# Altium integrated library TE Pressure Sensors.IntLib: 6 symbols
Pins are listed as number, name and electrical type; pins without a type are passive.

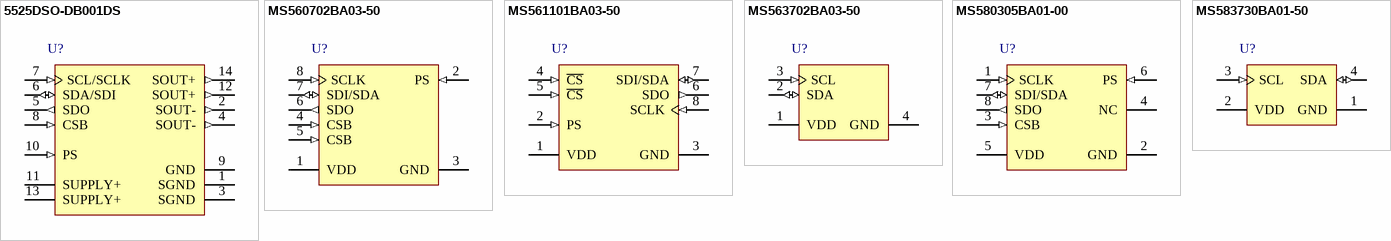
[diagram p0: symbols 5525DSO-DB001DS to MS583730BA01-50]

## 5525DSO-DB001DS
designator U?
Digital Small Outline, 1.8 to 3.6 V, -40 to 125 degC, 14-Pin SOIC, RoHS; PackageReference: SMD; PackageDescription: 14-Pin Small Outline Integrated Package, Body 12.50 x 7.90 mm, Pitch 1.27 mm; Supplier 1: Digi-Key; Supplier Part Number 1: 223-1707-5-ND; Mounting Technology: Surface Mount; ComponentLink1Description: Manufacturer URL; ComponentLink1URL: http://www.te.com; ComponentLink2Description: Datasheet; ComponentLink2URL: http://www.te.com/commerce/DocumentDelivery/DDEController?Action=showdoc&DocId=Data+Sheet%7FMS5525DSO%7FD6%7Fpdf%7FEnglish%7FENG_DS_MS5525DSO_D6.pdf%7F5525DSO-DB001DS
footprint TECO-MS5525DSO-DBxxxyS-14_V (SOIC, 14-Leads, Body 12.50x7.90mm, Pitch 1.27mm)
pins: 1 SGND (power) "Sensor Ground", 2 SOUT- (out) "Sensor Outputs, Negative", 3 SGND (power) "Sensor Ground", 4 SOUT- (out) "Sensor Outputs, Negative", 5 SDO (out) "Serial Data Output", 6 SDA/SDI (io), 7 SCL/SCLK (in), 8 CSB (in) "Defines I2C Address, Chip Select (Active Low)", 9 GND (power), 10 PS (in) "Protocol Select", 11 SUPPLY+ (power) "Positive Supply Voltage", 12 SOUT+ (out) "Sensor Outputs, Positive", 13 SUPPLY+ (power) "Positive Supply Voltage", 14 SOUT+ (out) "Sensor Outputs, Positive"

## MS560702BA03-50
designator U?
Barometric Pressure Sensor, with Stainless Steel Cap , 1.8 to 3.6 V, -40 to 85 degC, 8-Pin SMD, RoHS, Tape and Reel; PackageReference: SMD; PackageDescription: 8-Pin Surface Mount Device, Body 3 x 5 mm, Pitch 1.25 mm; Supplier 1: Digi-Key; Supplier Part Number 1: 223-1198-2-ND; Supplier 2: Digi-Key; Supplier Part Number 2: 223-1198-1-ND; Supplier 3: Digi-Key; Supplier Part Number 3: 223-1198-6-ND; Mounting Technology: Surface Mount; ComponentLink1Description: Manufacturer URL; ComponentLink1URL: http://www.te.com; ComponentLink2Description: Datasheet; ComponentLink2URL: http://www.te.com/commerce/DocumentDelivery/DDEController?Action=showdoc&DocId=Data+Sheet%7FMS5607-02BA03%7FB2%7Fpdf%7FEnglish%7FENG_DS_MS5607-02BA03_B2.pdf%7FMS560702BA03-50
footprint TECO-MS560702BA03-50_V (SMD, 8-Leads, Body 3x5mm, Pitch 1.25mm)
pins: 1 VDD (power) "Positive supply voltage", 2 PS (in) "Protocol select. PS high (VDD) ---> I2C. PS low (GND) ---> SPI", 3 GND (power) "Ground", 4 CSB (in) "Chip select (active low), internal connection", 5 CSB (in) "Chip select (active low), internal connection", 6 SDO (out) "Serial data output", 7 SDI/SDA (io) "Serial data input / I2C data IO", 8 SCLK (in) "Serial data clock"

## MS561101BA03-50
designator U?
Barometric Pressure Sensor, with Stainless Steel Cap, 1.8 to 3.6 V, -45 to 85 degC, 8-Pin QFN, RoHS, Tape and Reel; PackageReference: SMD; PackageDescription: 8-Pin Surface Mount Device, Body 5 x 3 mm, Pitch 1.25 mm; Supplier 1: Digi-Key; Supplier Part Number 1: 223-1622-2-ND; Supplier 2: Digi-Key; Supplier Part Number 2: 223-1622-1-ND; Supplier 3: Digi-Key; Supplier Part Number 3: 223-1622-6-ND; Mounting Technology: Surface Mount; ComponentLink1Description: Manufacturer URL; ComponentLink1URL: http://www.te.com; ComponentLink2Description: Datasheet; ComponentLink2URL: http://www.te.com/commerce/DocumentDelivery/DDEController?Action=srchrtrv&DocNm=MS5611-01BA03&DocType=Data+Sheet&DocLang=English&DocFormat=pdf&PartCntxt=CAT-BLPS0036
footprint MSI-MS561101BA03-50-8_V (SMD, 8-Leads, Body 5x3mm, Pitch 1.25mm)
pins: 1 VDD (power) "Positive supply voltage", 2 PS (in) "Protocol select", 3 GND (power) "Ground", 4 ~{CS} (in) "Chip select (active low), internal connection", 5 ~{CS} (in) "Serial data output", 6 SDO (out) "Serial data output", 7 SDI/SDA (io), 8 SCLK (in) "Serial data clock"

## MS563702BA03-50
designator U?
Low Voltage Barometric Pressure Sensor, 1.5 to 3.6 V, -40 to 85 degC, 4-Pin SMD, RoHS, Tape and Reel; PackageReference: SMD; PackageDescription: 4-Pin Surface Mount Device, Body 3 x 3 mm, Pitch 2 mm; Supplier 1: Digi-Key; Supplier Part Number 1: 223-1199-2-ND; Supplier 2: Digi-Key; Supplier Part Number 2: 223-1199-1-ND; Supplier 3: Digi-Key; Supplier Part Number 3: 223-1199-6-ND; Mounting Technology: Surface Mount; ComponentLink1Description: Manufacturer URL; ComponentLink1URL: http://www.te.com; ComponentLink2Description: Datasheet; ComponentLink2URL: http://www.te.com/commerce/DocumentDelivery/DDEController?Action=showdoc&DocId=Data+Sheet%7FMS5637-02BA03%7FB4%7Fpdf%7FEnglish%7FENG_DS_MS5637-02BA03_B4.pdf%7FMS563702BA03-50
footprint TECO-MS563702BA03-50_V (SMD, 4-Leads, Body 3x3mm, Pitch 2mm)
pins: 1 VDD (power) "Positive supply voltage", 2 SDA (io) "I2C data", 3 SCL (in) "I2C clock", 4 GND (power) "Ground"

## MS580305BA01-00
designator U?
Miniature Altimeter and Diving Module, 1.8 to 3.6 V, -40 to 85 degC, 8-Pin SMD, RoHS, Tube; PackageReference: SMD; PackageDescription: 8-Pin Surface Mount Device, Body 6.4 x 6.2 mm; Supplier 1: Digi-Key; Supplier Part Number 1: 223-1625-5-ND; Mounting Technology: Surface Mount; ComponentLink1Description: Manufacturer URL; ComponentLink1URL: http://www.te.com; ComponentLink2Description: Datasheet; ComponentLink2URL: http://www.te.com/commerce/DocumentDelivery/DDEController?Action=showdoc&DocId=Data+Sheet%7FMS5803-05BA%7FB2%7Fpdf%7FEnglish%7FENG_DS_MS5803-05BA_B2.pdf%7FMS580305BA01-00
footprint TECO-MS580305BA01-00_V (SMD, 8-Leads, Body 6.4x6.2mm)
pins: 1 SCLK (in) "Serial data clock", 2 GND (power) "Ground", 3 CSB (in) "Chip Select (active low)", 4 NC, 5 VDD (power) "Positive supply voltage", 6 PS (in) "Communication protocol select SPI / I2C", 7 SDI/SDA (io), 8 SDO (out) "Serial data output"

## MS583730BA01-50
designator U?
Ultra Small Gel Filled Pressure Sensor, 1.5 to 3.6 V, -20 to 85 degC, 4-Pin SMD, RoHS, Tape and Reel; PackageReference: SMD; PackageDescription: 4-Pin Surface Mount Device, Body 3.3 x 3.3 mm, Pitch 2 mm; Supplier 1: Digi-Key; Supplier Part Number 1: 223-1704-2-ND; Supplier 2: Digi-Key; Supplier Part Number 2: 223-1704-1-ND; Supplier 3: Digi-Key; Supplier Part Number 3: 223-1704-6-ND; Mounting Technology: Surface Mount; ComponentLink1Description: Manufacturer URL; ComponentLink1URL: http://www.te.com; ComponentLink2Description: Datasheet; ComponentLink2URL: http://www.te.com/commerce/DocumentDelivery/DDEController?Action=srchrtrv&DocNm=MS5837-30BA&DocType=Data+Sheet&DocLang=English
footprint TECO-MS583730BA01-50_V (SMD, 4-Leads, Body 3.3x3.3mm, Pitch 2mm)
pins: 1 GND (power) "Ground", 2 VDD (power) "Positive Supply", 3 SCL (in) "I2C Clock", 4 SDA (io) "I2C Data"